# Altium schematic symbol library DCDC Bidirectional Requlators.SchLib: 1 symbol
Pins are listed as number, name and electrical type; pins without a type are passive.

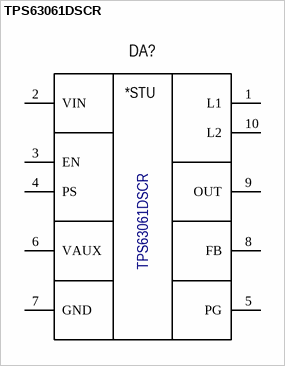
[diagram p0: symbol TPS63061DSCR]

## TPS63061DSCR
designator DA?
DCDC Bi Reg 2A 5V (2.5-12V); Manufacturer: Texas Instruments; Group: Power DCDC SMPS; Dimention: .0mm x .0mm; Component: DCDC SMPS; Package: WSON-10 (3x3); Part name: TPS63061DSCR; Height: .0mm; Mounting type: Surface mount; Operating temperature: -°C +°C
footprint WSON-10 (WSON-10 3x3x0.9mm)
pins: 1 L1 "SW Pin", 2 VIN "Internal Reference Voltage", 3 EN "Enable Channel", 4 PS "Channel Compensation Pin", 5 PG "Signal Ground", 6 VAUX "Internal Reference Voltage", 7 GND "Power Ground", 8 FB "Channel Feedback Pin", 9 OUT "Boost Output Pin", 10 L2 "SW Pin"
text: *STU